# EAGLE library part MCP1640BT-I/CHY (library Eric Navarrete Custom Parts Feb 2019)
Synchronous Boost Regulator
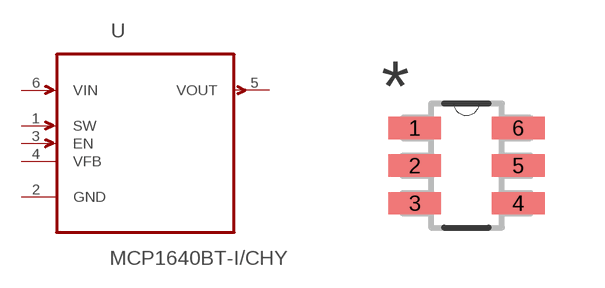
[diagram p39: symbol with the pads of TSOT23-6; footprint TSOT23-6]

Designator prefix U

## MCP1640BT-I/CHY (MPN: MCP1640BT-I/CHY; OC_FARNELL: 1800207; OC_NEWARK: 73R3625; PACKAGE: SOT-6; SUPPLIER: Microchip)  [TSOT23-6]
1  SW  in
2  GND  pas
3  EN  in
4  VFB  in
5  VOUT  out
6  VIN  in

## Footprint TSOT23-6 (pad centres in mm)
smd 1.321 x 0.559: 1 -1.295,0.94; 2 -1.295,0; 3 -1.295,-0.94; 4 1.295,-0.94; 5 1.295,0; 6 1.295,0.94